# Altium schematic symbol library 776231-1.SchLib: 1 symbol
Pins are listed as number, name and electrical type; pins without a type are passive.

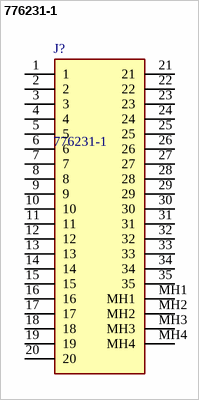
[diagram p0: symbol 776231-1]

## 776231-1
designator J?
Body Features: Connector & Keying Code 1 | Primary Product Color Black | Configuration Features: PCB Mount Orientation Vertical | Number of Positions 35 | Number of Rows 3 | Contact Features: Contact Current Rating (Max) 8 AMP | Contact Type Pin | Contact Mating Area Plating Material Tin | Housing Features: Centerline (Pitch) .157 INCH | Centerline (Pitch) 4 MM | Industry Standards: UL Flammability Rating UL 94V-0 | Mechanical Attachment: PCB Mount Retention Without | Mating Alignment With | PCB Mount Align; Manufacturer_Name: TE Connectivity; Geometry.Height: 34.25mm; Mouser Part Number: 571-776231-1; Mouser Price/Stock: https://www.mouser.co.uk/ProductDetail/TE-Connectivity/776231-1?qs=YqNA2qefETAQAJm2ankyIA%3D%3D; Manufacturer_Part_Number: 776231-1; Datasheet Link: https://www.te.com/commerce/DocumentDelivery/DDEController?Action=srchrtrv&DocNm=1-1773979-2&DocType=Data%20Sheet&DocLang=English&PartCntxt=776231-1&DocFormat=pdf
footprint 7762311
pins: 1, 2, 3, 4, 5, 6, 7, 8, 9, 10, 11, 12, 13, 14, 15, 16, 17, 18, 19, 20, 21, 22, 23, 24, 25, 26, 27, 28, 29, 30, 31, 32, 33, 34, 35, MH1, MH2, MH3, MH4